# Altium schematic symbol library Transmitter.SCHLIB: 10 symbols
Pins are listed as number, name and electrical type; pins without a type are passive.

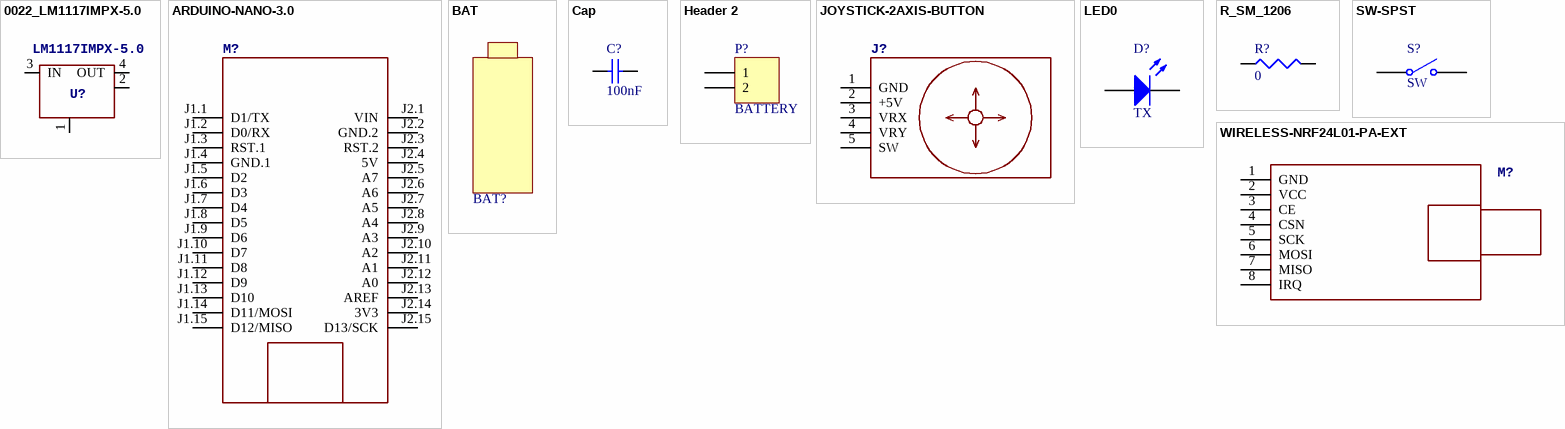
[diagram p0: symbols 0022_LM1117IMPX-5.0 to WIRELESS-NRF24L01-PA-EXT]

## 0022_LM1117IMPX-5.0
designator U?, comment LM1117IMPX-5.0
Low-dropout linear regulator 5V  -LM1117IMPX-5.0
footprint LINEAR_SOT223
pins: 1 GND/ADJ, 2 OUT, 3 IN, 4 OUT

## ARDUINO-NANO-3.0
designator M?, comment <b>Arduino Nano 3.0</b> and compatible devices / <p>More details available here:<br> / <a href="https://www.arduino.cc/en/Main/ArduinoBoardNano">https://www.arduino.cc/en/Main/ArduinoBoardNano</a></p> / <p><b><a href="http://www.ebay.com/sch/arduino+nano">Click here to find device on ebay.com</a></b></p> / <p><img alt="photo" src="http://www.diymodules.org/img/device-photo.php?name=ARDUINO-NANO-3.0"></p>  (value not drawn)
footprint ARDUINO-NANO-3.0
pins: J1.1 D1/TX, J1.2 D0/RX, J1.3 RST.1, J1.4 GND.1 (power), J1.5 D2, J1.6 D3, J1.7 D4, J1.8 D5, J1.9 D6, J1.10 D7, J1.11 D8, J1.12 D9, J1.13 D10, J1.14 D11/MOSI, J1.15 D12/MISO, J2.1 VIN (power), J2.2 GND.2 (power), J2.3 RST.2, J2.4 5V (power), J2.5 A7, J2.6 A6, J2.7 A5, J2.8 A4, J2.9 A3, J2.10 A2, J2.11 A1, J2.12 A0, J2.13 AREF, J2.14 3V3 (power), J2.15 D13/SCK

## BAT
designator BAT?  (value not drawn)
footprint BAT

## Cap
designator C?  value 100nF  (hidden comment: Cap)
Capacitor; Published: 8-Jun-2000; LatestRevisionDate: 17-Jul-2002; LatestRevisionNote: Re-released for DXP Platform.; PackageReference: RAD-0.3; Publisher: Altium Limited; PackageDescription: Radial Cap, Thru-Hole; 2 Leads; 0.3 in Pin Spacing
footprint R1206
simulation model CAP (Capacitor)
signal-integrity model Cap
pins: 1, 2

## Header 2
designator P?, comment BATTERY
Header, 2-Pin; LatestRevisionDate: 17-Jul-2002; LatestRevisionNote: Re-released for DXP Platform.; Publisher: Altium Limited
footprint HDR1X2 (Connector; Header; 2 Position)
signal-integrity model Connector
pins: 1, 2

## JOYSTICK-2AXIS-BUTTON
designator J?, comment <b>2-Axis Analog Joystick</b> with Push Button / <p>Tutorial is available here:<br /> / <a href="http://henrysbench.capnfatz.com/henrys-bench/arduino-sensors-and-input/arduino-ps2-joystick-tutorial-keyes-ky-023-deek-robot/">http://henrysbench.capnfatz.com/henrys-bench/arduino-sensors-and-input/arduino-ps2-joystick-tutorial-keyes-ky-023-deek-robot/</a></p> / <p><b><a href="http://www.ebay.com/sch/joystick+ps2+module">Click here to find device on ebay.com</a></b></p> / <p><img alt="photo" src="http://www.diymodules.org/img/device-photo.php?name=JOYSTICK-2AXIS-BUTTON"></p>  (value not drawn)
footprint JOYSTICK-2AXIS-BUTTON
pins: 1 GND (power), 2 +5V (power), 3 VRX, 4 VRY, 5 SW

## LED0
designator D?, comment TX
Typical INFRARED GaAs LED; Published: 8-Jun-2000; LatestRevisionDate: 08-Jul-2005; LatestRevisionNote: Mech Layer 1 removed.; PackageReference: LED-0; Publisher: Altium Limited; PackageDescription: LED; 2 Leads
footprint R1206
simulation model LED0 (Diode)
pins: 1 A, 2 K

## R_SM_1206
designator R?, comment 0
RJ-1206-; Value: 120 ohm
footprint R1206
pins: 1, 2

## SW-SPST
designator S?, comment SW
Single-Pole, Single-Throw Switch; Published: 24-Mar-1999; LatestRevisionDate: 17-Jul-2002; LatestRevisionNote: Re-released for DXP Platform.; PackageReference: SPST-2; Publisher: Altium Limited; PackageDescription: Switch; 2 Leads
footprint KEY
pins: 1 COMMON, 2 NO

## WIRELESS-NRF24L01-PA-EXT
designator M?, comment <b>2.4 GHz Wireless Module</b> based on <b>NRF24L01</b> chip with preamplifier and external antenna / <p><b><a href="http://www.ebay.com/sch/nrf24l01+pa+lna+sma">Click here to find device on ebay.com</a></b></p> / <p><img alt="photo" src="http://www.diymodules.org/img/device-photo.php?name=WIRELESS-NRF24L01-PA-EXT"></p>  (value not drawn)
footprint WIRELESS-NRF24L01-PA-EXT
pins: 1 GND (power), 2 VCC (power), 3 CE, 4 CSN, 5 SCK, 6 MOSI, 7 MISO, 8 IRQ